# Altium footprint library HMC2003_module_SET_RESET.PcbLib: 10 footprints
Each footprint in its own frame and in the unit in brackets; x right, y up, seen from the top. Pads: shape width x height; smd on the part's side, far side on the other; paste and mask are expansions set on the pad; w line width, h text height; cw(c..) or ccw(c..) is an arc to the next point about the centre after c.
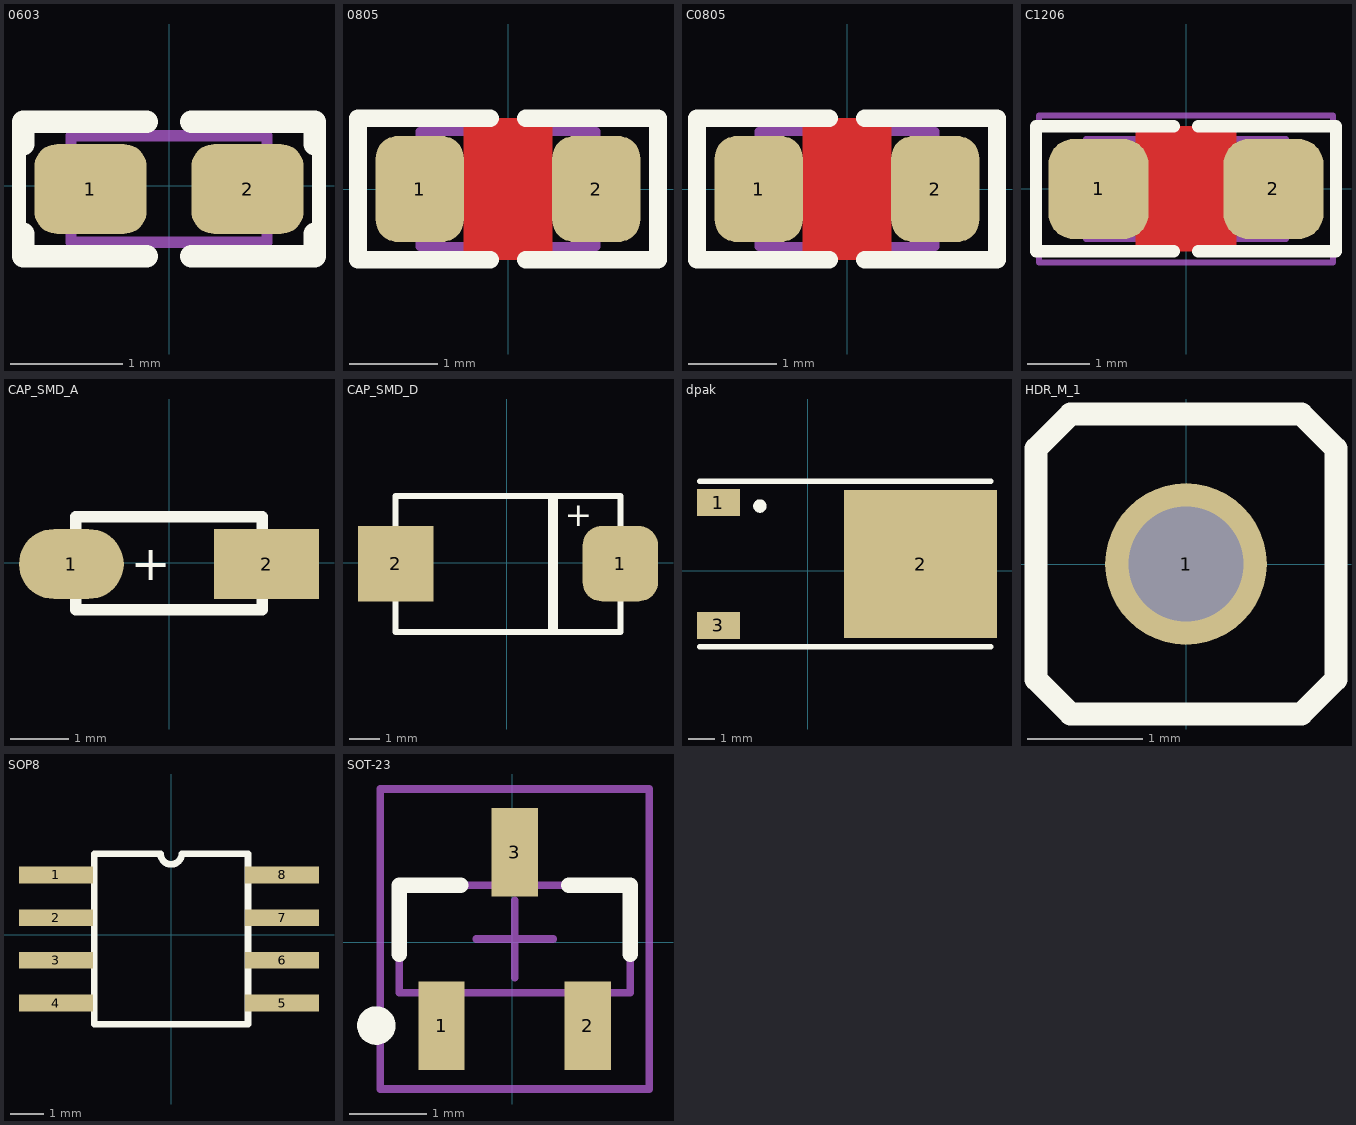
[diagram p0: the footprints below, top view; thin cyan lines are the x and y axes]

## 0603 [mm]
pads (2):
  rrect50% 1x0.8 smd mask+0.075: 1(-0.7,-0.027) 2(0.7,-0.027)
Top Overlay:
  lines w0.125: -1.337,-0.427 -1.337,0.373 ; 1.337,-0.427 1.337,0.373
  lines w0.2: -1.3,-0.427 -1.3,-0.627 -0.2,-0.627 ; -1.3,0.373 -1.3,0.573 -0.2,0.573 ; 0.2,-0.627 1.3,-0.627 1.3,-0.427 ; 0.2,0.573 1.3,0.573 1.3,0.373
Mechanical 13:
  lines w0.1: -0.875,-0.502 -0.875,0.448 0.875,0.448 0.875,-0.502 -0.875,-0.502
3D body: height 0.6, standoff 0, extent -0.875,-0.502 0.875,0.448

## 0805 [mm] ",0805, 2012, 200X130"
pads (2):
  rrect50% 1x1.2 smd mask+0.075: 1(-1,0) 2(1,0)
Top Layer:
  pour cut-out: -0.5,0.8 0.5,0.8 0.5,-0.8 -0.5,-0.8
Top Overlay:
  lines w0.2: -0.2,-0.8 -1.7,-0.8 -1.7,0.8 -0.2,0.8 ; 0.2,-0.8 1.7,-0.8 1.7,0.8 0.2,0.8
Mechanical 13:
  lines w0.1: -1,-0.65 1,-0.65 1,0.65 -1,0.65 -1,-0.65
3D body: height 0.8, standoff 0, extent -1,-0.65 1,0.65

## C0805 [mm] "CHIP Capacitor, 2.0X1.3mm, 0805"
pads (2):
  rrect50% 1x1.2 smd mask+0.075: 1(-1,0) 2(1,0)
Top Layer:
  pour cut-out: -0.5,0.8 0.5,0.8 0.5,-0.8 -0.5,-0.8
Top Overlay:
  lines w0.2: -0.2,-0.8 -1.7,-0.8 -1.7,0.8 -0.2,0.8 ; 0.2,-0.8 1.7,-0.8 1.7,0.8 0.2,0.8
Mechanical 13:
  lines w0.1: -1,-0.65 -1,0.65 1,0.65 1,-0.65 -1,-0.65
3D body "User Library-CAPC2013X10.step": height 1, standoff 0, extent -1,-0.625 1,0.625

## C1206 [mm] "CHIP Capacitor, 3.2X1.6mm, 1206"
height 2
pads (2):
  rrect50% 1.6x1.6 smd mask+0.075: 1(-1.4,0) 2(1.4,0)
Top Layer:
  pour cut-out: -0.8,1 -0.8,-1 0.8,-1 0.8,1
Top Overlay:
  lines w0.2: -0.2,-1 -2.4,-1 -2.4,1 -0.2,1 ; 0.2,-1 2.4,-1 2.4,1 0.2,1
Mechanical 13:
  lines w0.1: -1.6,-0.8 1.6,-0.8 1.6,0.8 -1.6,0.8 -1.6,-0.8
Mechanical 15:
  lines w0.1: -0.5,0 0.5,0 ; 0,-0.5 0,0.5 ; -2.35,-1.175 2.35,-1.175 2.35,1.175 -2.35,1.175 -2.35,-1.175
3D body "User Library-CAPC3216X10.step": height 1, standoff 0, extent -1.6,-0.8 1.6,0.8

## CAP_SMD_A [mm]
pads (2):
  oval 1.8x1.2 smd: 1(-1.676,-0.025)
  rect 1.8x1.2 smd: 2(1.676,-0.025)
Top Overlay:
  lines w0.2: -1.6,-0.813 -1.6,0.787 1.6,0.787 1.6,-0.813 -1.6,-0.813
  text "+" at -0.66,-0.305 h0.6
3D body "User Library-CAP_TANT_3216-18_A_case-1.step": height 1.7, standoff 0, extent -1.7,-0.889 1.7,0.911

## CAP_SMD_D [mm]
pads (2):
  rrect50% 2.5x2.5 smd: 1(3.767,-0.025)
  rect 2.5x2.5 smd: 2(-3.683,-0.025)
Top Overlay:
  rectangle: 1.372,-2.286 1.702,2.214
  lines w0.2: -3.683,-2.286 3.767,-2.286 3.767,2.214 -3.683,2.214 -3.683,-2.286
  text "+" at 1.93,1.219 h0.8
3D body "User Library-AVX_E_CASE.step": height 4.2, standoff 0, extent -3.319,-2.418 4.081,2.032

## dpak [mm]
pads (3):
  rect 1.6x1 smd: 1(-3.319,2.539) 3(-3.319,-2.031)
  rect 5.7x5.5 smd: 2(4.208,0.254)
Top Overlay:
  circle w0.25: c-1.776,2.413 r0.125
  lines w0.2: -4.019,-2.831 6.831,-2.831 ; -4.019,3.339 6.831,3.339
3D body "DPAK-1.STEP": height 2.44, standoff 0.03, extent -3.699,-3.048 6.239,3.492

## HDR_M_1 [mm] "Connector; Header; 1 Position"
pads (1):
  round 1.4 / inner round 1.4 / far side oval 1.4x2.2 hole 1 mask+0.1: 1(0,0)
Top Overlay:
  lines w0.2: -1.3,-1 -1,-1.3 1,-1.3 1.3,-1 1.3,1 1,1.3 -1,1.3 -1.3,1 -1.3,-1
3D body "PLS-1.step": height 8.54, standoff -2.9, extent -1.27,-1.27 1.27,1.27

## SOP8 [mm]
pads (8):
  rect 2.2x0.5 smd: 1(-3.429,1.778) 2(-3.429,0.508) 3(-3.429,-0.762) 4(-3.429,-2.032) 5(3.298,-2.032) 6(3.298,-0.762) 7(3.298,0.508) 8(3.298,1.778)
Top Overlay:
  lines w0.2: -2.286,-2.667 2.286,-2.667 2.286,2.413 0.315,2.413 cw(c-0.002,2.413) -0.32,2.413 -2.286,2.413 -2.286,-2.667
3D body "User Library-so8-3.step": height 1.7, standoff 0, extent -3.006,-2.564 2.994,2.336

## SOT-23 [mm]
pads (3):
  rect 0.6x1.15 smd: 1(-0.919,-1.081) 2(0.981,-1.081) 3(0.031,1.169)
Top Overlay:
  circle w0.25: c-1.769,-1.081 r0.125
  lines w0.2: -1.469,-0.156 -1.469,0.744 -0.669,0.744 ; 0.731,0.744 1.531,0.744 1.531,-0.156
Mechanical 13:
  lines w0.1: -1.469,-0.656 1.531,-0.656 1.531,0.744 -1.469,0.744 -1.469,-0.656
Mechanical 15:
  lines w0.1: -0.469,0.044 0.531,0.044 ; 0.031,-0.456 0.031,0.544 ; -1.719,-1.906 1.781,-1.906 1.781,1.994 -1.719,1.994 -1.719,-1.906
3D body "User Library-N-MOS_BSS123_SOT23.STEP": height 1, standoff 0, extent -1.419,-1.181 1.481,1.119